# Altium footprint library Schurter 5x20mm Fuse Holder.PcbLib: 1 footprints
Each footprint in its own frame and in the unit in brackets; x right, y up, seen from the top. Pads: shape width x height; smd on the part's side, far side on the other; paste and mask are expansions set on the pad; w line width, h text height; cw(c..) or ccw(c..) is an arc to the next point about the centre after c.
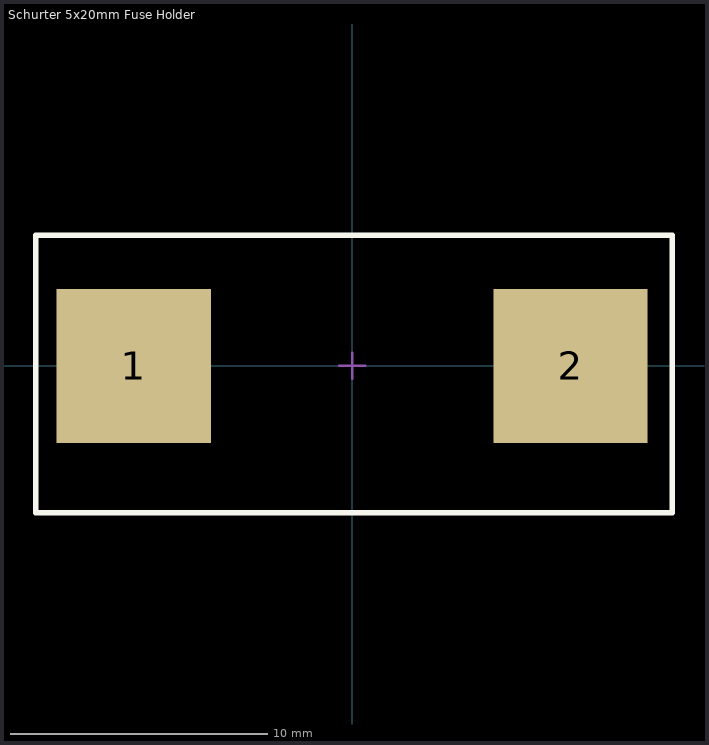
[diagram p0: the footprint, top view; thin cyan lines are the x and y axes]

## Schurter 5x20mm Fuse Holder [mm] "MFG: 0031.8221, Digikey: 486-1260-ND"
height 15
pads (2):
  rect 6x6 smd: 1(-8.5,0) 2(8.5,0)
Top Overlay:
  lines w0.2: -12.31,-5.715 -12.31,5.08 12.455,5.08 12.455,-5.715 -12.31,-5.715
Mechanical 15:
  lines w0.1: -0.5,0 0.5,0 ; 0,-0.5 0,0.5
3D body "OGN-SMD.STEP": height 12, standoff 0, extent -11.341,-5.08 11.359,4.52